# EAGLE library part TLS4125D0EPV33 (library v-reg-custom)
+/-1.5% feedback voltage accuracy in PWM mode Source: Datasheet <https://www.infineon.com/dgdl/Infineon-TLS4125D0EP V33-DataSheet-v01_02-EN.pdf?fileId=5546d46270c4f93e01710b60ad4b3b3c>
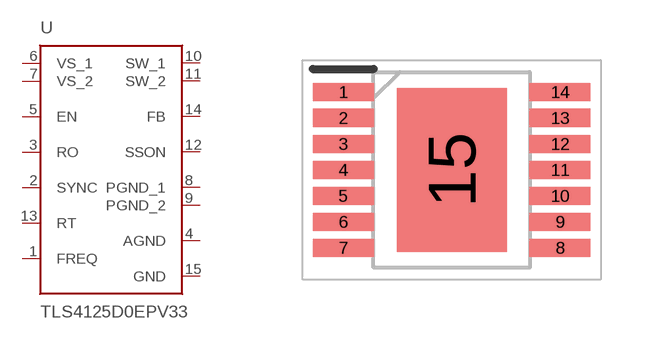
[diagram p1: symbol with the pads of SOP65P600X115-15N; footprint SOP65P600X115-15N]

Designator prefix U

## TLS4125D0EPV33 (DESCRIPTION: +/-1.5% feedback voltage accuracy in PWM mode; HEIGHT: 1.15mm; MFG: Infineon; MPN: TLS4125D0EPV33XUMA1; VALUE: TLS4120 3.3V)  [SOP65P600X115-15N]
1  FREQ
2  SYNC
3  RO
4  AGND
5  EN
6  VS_1
7  VS_2
8  PGND_1
9  PGND_2
10  SW_1
11  SW_2
12  SSON
13  RT
14  FB
15  GND

## Footprint SOP65P600X115-15N (pad centres in mm)
PG-TSDSO-14_2022
smd 1.525 x 0.45: 1 -2.712,1.95; 2 -2.712,1.3; 3 -2.712,0.65; 4 -2.712,0; 5 -2.712,-0.65; 6 -2.712,-1.3; 7 -2.712,-1.95; 8 2.712,-1.95; 9 2.712,-1.3; 10 2.712,-0.65; 11 2.712,0; 12 2.712,0.65; 13 2.712,1.3; 14 2.712,1.95
smd 2.75 x 4.1: 15 0,0